# EAGLE library part #EM84 (library E88CC)
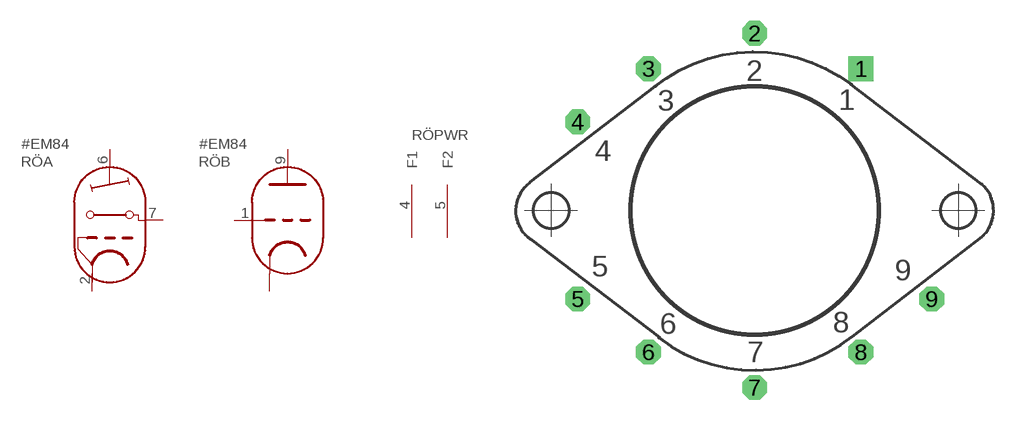
[diagram p18: symbol with the pads of NOVAL_G; footprint NOVAL_G]

Designator prefix RÖ; gates A=ANZEIGE B=TRIODE PWR=FADEN

## #EM84  [NOVAL_G]
1  B:G  in
2  A:K
4  PWR:F1  pwr
5  PWR:F2  pwr
6  A:L  out
7  A:ST  in
9  B:A  out

## Footprint NOVAL_G (pad centres in mm)
drill 1 pad 1.778 square: 1 7.62,10.16
drill 1 pad 1.778 octagon: 2 0,12.7; 3 -7.62,10.16; 4 -12.7,6.35; 5 -12.7,-6.35; 6 -7.62,-10.16; 7 0,-12.7; 8 7.62,-10.16; 9 12.7,-6.35